# EAGLE library part MIC2253 (library VNA)
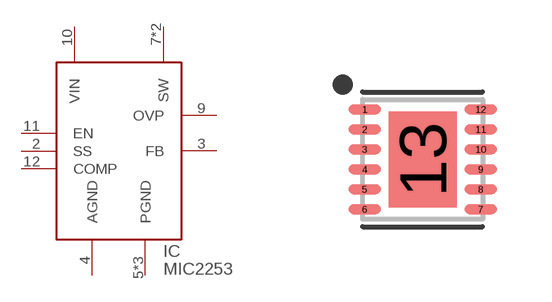
[diagram p9: symbol with the pads of SON50P300X300X90-13T170X240N; footprint SON50P300X300X90-13T170X240N]

Designator prefix IC

## MIC2253  [SON50P300X300X90-13T170X240N]
2  SS
3  FB
4  AGND
5  PGND
6  PGND
7  SW
8  SW
9  OVP
10  VIN
11  EN
12  COMP
13  PGND

## Footprint SON50P300X300X90-13T170X240N (pad centres in mm)
12-SON (DFN), 0.50 mm pitch, 3.00 X 3.00 X 0.90 mm body, 2.40 X 1.70 mm thermal pad 12-pin SON (DFN) package with 0.50 mm pitch with body size 3.00 X 3.00 X 0.90 mm and thermal pad size 2.40 X 1.70 mm
smd 0.811 x 0.25: 1 -1.451,1.25; 2 -1.451,0.75; 3 -1.451,0.25; 4 -1.451,-0.25; 5 -1.451,-0.75; 6 -1.451,-1.25; 7 1.451,-1.25; 8 1.451,-0.75; 9 1.451,-0.25; 10 1.451,0.25; 11 1.451,0.75; 12 1.451,1.25
smd 1.7 x 2.4: 13 0,0